# Altium integrated library pcb-edge-usb-c.IntLib: 3 symbols
Pins are listed as number, name and electrical type; pins without a type are passive.

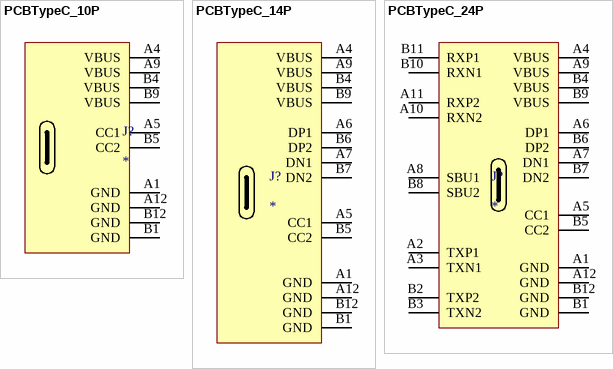
[diagram p0: symbols PCBTypeC_10P to PCBTypeC_24P]

## PCBTypeC_10P
designator J?
Use your PCB as a USB C connector! 10 Pin version is power power only, no data.
footprint PCBTypeC_10P
pins: A1 GND, A4 VBUS, A5 CC1, A9 VBUS, A12 GND, B1 GND, B4 VBUS, B5 CC2, B9 VBUS, B12 GND

## PCBTypeC_14P
designator J?
Use your PCB as a USB C connector! 14 Pin version is USB 2.0 and power only. Use this to replace a micro USB connector and don't forget the CC resistors!
footprint PCBTypeC_14P
pins: A1 GND, A4 VBUS, A5 CC1, A6 DP1, A7 DN1, A9 VBUS, A12 GND, B1 GND, B4 VBUS, B5 CC2, B6 DP2, B7 DN2, B9 VBUS, B12 GND

## PCBTypeC_24P
designator J?
Use your PCB as a USB C connector! 24 Pin version is fully featured. Please keep in mind the limited mating cycles of this connector.
footprint PCBTypeC_24P
pins: A1 GND, A2 TXP1, A3 TXN1, A4 VBUS, A5 CC1, A6 DP1, A7 DN1, A8 SBU1, A9 VBUS, A10 RXN2, A11 RXP2, A12 GND, B1 GND, B2 TXP2, B3 TXN2, B4 VBUS, B5 CC2, B6 DP2, B7 DN2, B8 SBU2, B9 VBUS, B10 RXN1, B11 RXP1, B12 GND